# EAGLE library part LPC2103 (library SparkFun)
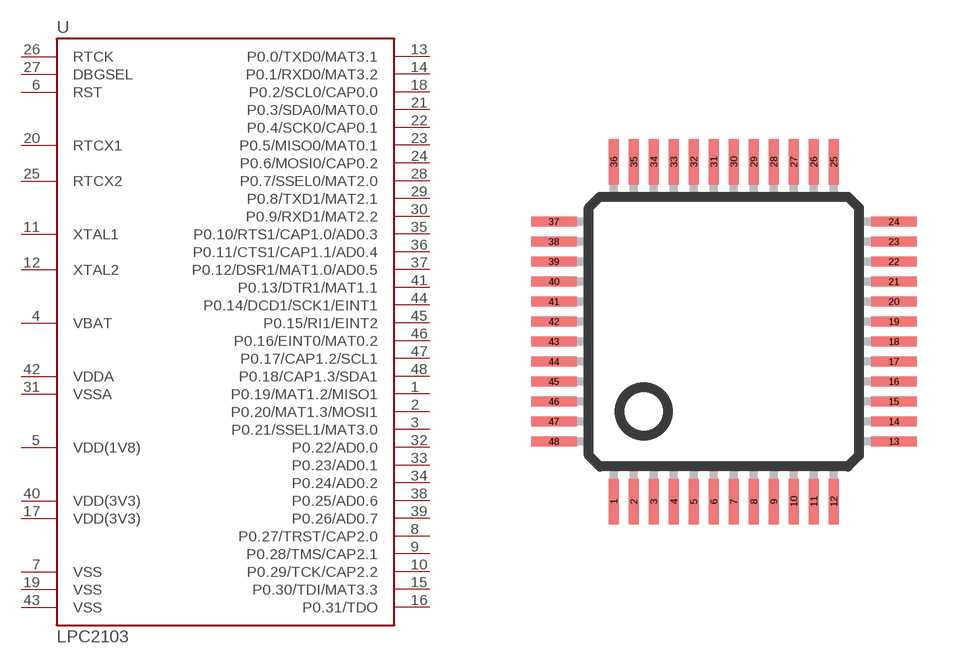
[diagram p236: symbol with the pads of LQFP-48; footprint LQFP-48]

Designator prefix -

## LPC2103  [LQFP-48]
1  P0.19/MAT1.2/MISO1
2  P0.20/MAT1.3/MOSI1
3  P0.21/SSEL1/MAT3.0
4  VBAT
5  VDD(1V8)
6  RST
7  VSS
8  P0.27/TRST/CAP2.0
9  P0.28/TMS/CAP2.1
10  P0.29/TCK/CAP2.2
11  XTAL1
12  XTAL2
13  P0.0/TXD0/MAT3.1
14  P0.1/RXD0/MAT3.2
15  P0.30/TDI/MAT3.3
16  P0.31/TDO
17  VDD(3V3)
18  P0.2/SCL0/CAP0.0
19  VSS
20  RTCX1
21  P0.3/SDA0/MAT0.0
22  P0.4/SCK0/CAP0.1
23  P0.5/MISO0/MAT0.1
24  P0.6/MOSI0/CAP0.2
25  RTCX2
26  RTCK
27  DBGSEL
28  P0.7/SSEL0/MAT2.0
29  P0.8/TXD1/MAT2.1
30  P0.9/RXD1/MAT2.2
31  VSSA
32  P0.22/AD0.0
33  P0.23/AD0.1
34  P0.24/AD0.2
35  P0.10/RTS1/CAP1.0/AD0.3
36  P0.11/CTS1/CAP1.1/AD0.4
37  P0.12/DSR1/MAT1.0/AD0.5
38  P0.25/AD0.6
39  P0.26/AD0.7
40  VDD(3V3)
41  P0.13/DTR1/MAT1.1
42  VDDA
43  VSS
44  P0.14/DCD1/SCK1/EINT1
45  P0.15/RI1/EINT2
46  P0.16/EINT0/MAT0.2
47  P0.17/CAP1.2/SCL1
48  P0.18/CAP1.3/SDA1

## Footprint LQFP-48 (pad centres in mm)
smd 0.254 x 1.143: 1 -2.75,-4.25; 2 -2.25,-4.25; 3 -1.75,-4.25; 4 -1.25,-4.25; 5 -0.75,-4.25; 6 -0.25,-4.25; 7 0.25,-4.25; 8 0.75,-4.25; 9 1.25,-4.25; 10 1.75,-4.25; 11 2.25,-4.25; 12 2.75,-4.25; 25 2.75,4.25; 26 2.25,4.25; 27 1.75,4.25; 28 1.25,4.25; 29 0.75,4.25; 30 0.25,4.25; 31 -0.25,4.25; 32 -0.75,4.25; 33 -1.25,4.25; 34 -1.75,4.25; 35 -2.25,4.25; 36 -2.75,4.25
smd 1.143 x 0.254: 13 4.25,-2.75; 14 4.25,-2.25; 15 4.25,-1.75; 16 4.25,-1.25; 17 4.25,-0.75; 18 4.25,-0.25; 19 4.25,0.25; 20 4.25,0.75; 21 4.25,1.25; 22 4.25,1.75; 23 4.25,2.25; 24 4.25,2.75; 37 -4.25,2.75; 38 -4.25,2.25; 39 -4.25,1.75; 40 -4.25,1.25; 41 -4.25,0.75; 42 -4.25,0.25; 43 -4.25,-0.25; 44 -4.25,-0.75; 45 -4.25,-1.25; 46 -4.25,-1.75; 47 -4.25,-2.25; 48 -4.25,-2.75